# Altium footprint library AccShelf.PcbLib: 18 footprints (part 2 of 2)
Each footprint in its own frame and in the unit in brackets; x right, y up, seen from the top. Pads: shape width x height; smd on the part's side, far side on the other; paste and mask are expansions set on the pad; w line width, h text height; cw(c..) or ccw(c..) is an arc to the next point about the centre after c.
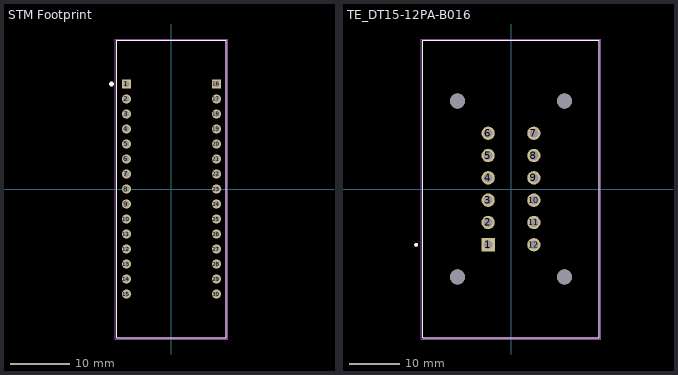
[diagram p1: the footprints below, top view; thin cyan lines are the x and y axes]

## STM Footprint [mm]
pads (30):
  rect 1.53x1.53 hole 1.02: 1(-7.62,17.78) 16(7.62,17.78)
  round 1.53 hole 1.02: 2(-7.62,15.24) 3(-7.62,12.7) 4(-7.62,10.16) 5(-7.62,7.62) 6(-7.62,5.08) 7(-7.62,2.54) 8(-7.62,0) 9(-7.62,-2.54) 10(-7.62,-5.08) 11(-7.62,-7.62) 12(-7.62,-10.16) 13(-7.62,-12.7) 14(-7.62,-15.24) 15(-7.62,-17.78) 17(7.62,15.24) 18(7.62,12.7) 19(7.62,10.16) 20(7.62,7.62) 21(7.62,5.08) 22(7.62,2.54) 23(7.62,0) 24(7.62,-2.54) 25(7.62,-5.08) 26(7.62,-7.62) 27(7.62,-10.16) 28(7.62,-12.7) 29(7.62,-15.24) 30(7.62,-17.78)
Top Overlay:
  circle w0.4: c-10.16,17.78 r0.2
  lines w0.127: -9.27,-25.145 9.27,-25.145 9.27,25.145 -9.27,25.145 -9.27,-25.145
Mechanical 13:
  circle w0.4: c-10.16,17.78 r0.2
  lines w0.127: -9.27,-25.145 9.27,-25.145 9.27,25.145 -9.27,25.145 -9.27,-25.145
Mechanical 15:
  lines w0.05: -9.52,-25.395 9.52,-25.395 9.52,25.395 -9.52,25.395 -9.52,-25.395
3D body "NUCLEO-F303K8--3DModel-STEP-56544.STEP": height 8.51, standoff -5.99, extent -9.274,-24.295 9.271,27.708

## TE_DT15-12PA-B016 [mm]
pads (16):
  rect 2.655x2.655 hole 1.77: 1(-4.56,-11.115)
  round 2.655 hole 1.77: 2(-4.56,-6.67) 3(-4.56,-2.225) 4(-4.56,2.225) 5(-4.56,6.67) 6(-4.56,11.115) 7(4.56,11.115) 8(4.56,6.67) 9(4.56,2.225) 10(4.56,-2.225) 11(4.56,-6.67) 12(4.56,-11.115)
  round 2.99 hole 2.99 unplated: ""(-10.67,-17.54) ""(-10.67,17.54) ""(10.67,-17.54) ""(10.67,17.54)
Top Overlay:
  circle w0.4: c-18.9,-11.115 r0.2
  lines w0.152: -17.63,-29.605 17.63,-29.605 17.63,29.605 -17.63,29.605 -17.63,-29.605
Mechanical 13:
  lines w0.152: -17.63,-29.605 17.63,-29.605 17.63,29.605 -17.63,29.605 -17.63,-29.605
Mechanical 15:
  lines w0.05: -17.9,-29.9 17.9,-29.9 17.9,29.9 -17.9,29.9 -17.9,-29.9
3D body "DT15-12PA-B016--3DModel-STEP-1.STEP": height 34.84, standoff -3.09, extent -17.628,-29.845 17.628,29.362